# EAGLE library part 10-DOF (library cyberhedz)
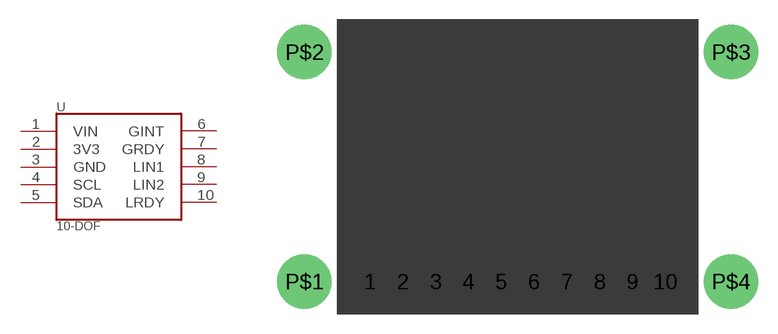
[diagram p11: symbol with the pads of 10-DOF; footprint 10-DOF]

Designator prefix -

## 10-DOF  [10-DOF]
1  VIN
2  3V3
3  GND
4  SCL
5  SDA
6  GINT
7  GRDY
8  LIN1
9  LIN2
10  LRDY

## Footprint 10-DOF (pad centres in mm)
drill 1.016 pad 1.88: 1 -11.43,0; 2 -8.89,0; 3 -6.35,0; 4 -3.81,0; 5 -1.27,0; 6 1.27,0; 7 3.81,0; 8 6.35,0; 9 8.89,0; 10 11.43,0
drill 3.2: P$1 -16.51,0; P$2 -16.51,17.78; P$3 16.51,17.78; P$4 16.51,0